# EAGLE library part ADN4664 (library open-ephys)
dual 3v lvds to cmos, differential line receiver
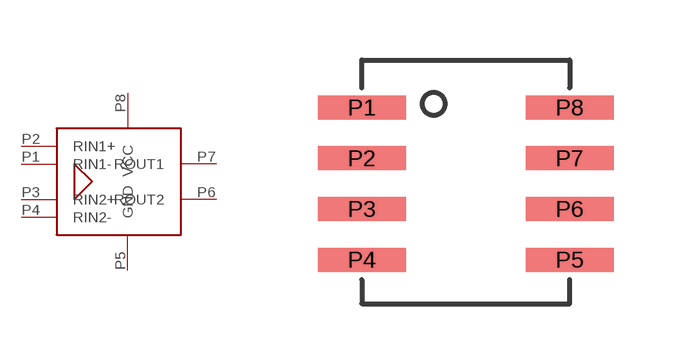
[diagram p20: symbol with the pads of 8-SOIC; footprint 8-SOIC]

Designator prefix -

## ADN4664  [8-SOIC]
P1  RIN1-
P2  RIN1+
P3  RIN2+
P4  RIN2-
P5  GND
P6  ROUT2
P7  ROUT1
P8  VCC

## Footprint 8-SOIC (pad centres in mm)
smd 2.2 x 0.6: P1 0,3.81; P2 0,2.54; P3 0,1.27; P4 0,0; P5 5.2,0; P6 5.2,1.27; P7 5.2,2.54; P8 5.2,3.81